# EAGLE library part DF40C-60DS (library sf-keyglove)
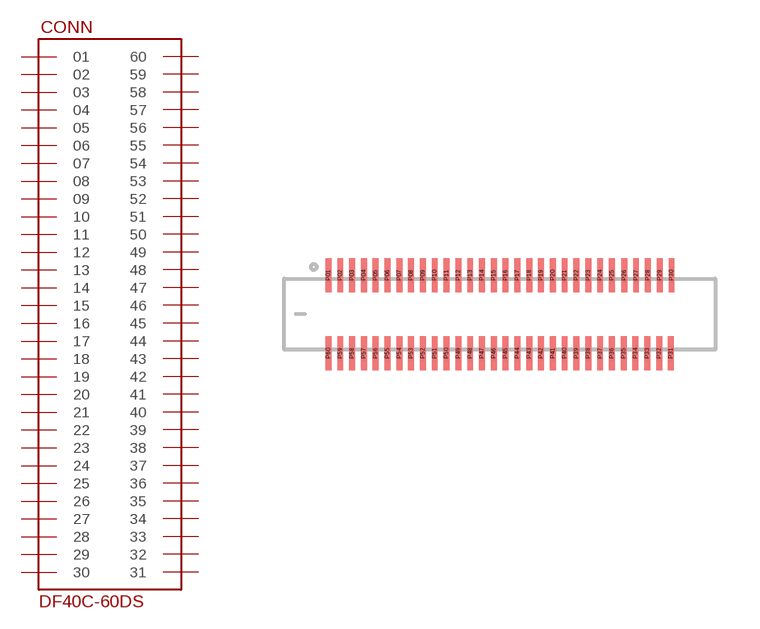
[diagram p8: symbol with the pads of DF40C-60DS; footprint DF40C-60DS]

Designator prefix CONN

## DF40C-60DS  [DF40C-60DS]
P01  01
P02  02
P03  03
P04  04
P05  05
P06  06
P07  07
P08  08
P09  09
P10  10
P11  11
P12  12
P13  13
P14  14
P15  15
P16  16
P17  17
P18  18
P19  19
P20  20
P21  21
P22  22
P23  23
P24  24
P25  25
P26  26
P27  27
P28  28
P29  29
P30  30
P31  31
P32  32
P33  33
P34  34
P35  35
P36  36
P37  37
P38  38
P39  39
P40  40
P41  41
P42  42
P43  43
P44  44
P45  45
P46  46
P47  47
P48  48
P49  49
P50  50
P51  51
P52  52
P53  53
P54  54
P55  55
P56  56
P57  57
P58  58
P59  59
P60  60

## Footprint DF40C-60DS (pad centres in mm)
smd 0.2 x 1.14: P01 -5.8,1.32; P02 -5.4,1.32; P03 -5,1.32; P04 -4.6,1.32; P05 -4.2,1.32; P06 -3.8,1.32; P07 -3.4,1.32; P08 -3,1.32; P09 -2.6,1.32; P10 -2.2,1.32; P11 -1.8,1.32; P12 -1.4,1.32; P13 -1,1.32; P14 -0.6,1.32; P15 -0.2,1.32; P16 0.2,1.32; P17 0.6,1.32; P18 1,1.32; P19 1.4,1.32; P20 1.8,1.32; P21 2.2,1.32; P22 2.6,1.32; P23 3,1.32; P24 3.4,1.32; P25 3.8,1.32; P26 4.22,1.32; P27 4.62,1.32; P28 5.02,1.32; P29 5.42,1.32; P30 5.82,1.32; P31 5.8,-1.32; P32 5.4,-1.32; P33 5,-1.32; P34 4.6,-1.32; P35 4.2,-1.32; P36 3.8,-1.32; P37 3.4,-1.32; P38 3,-1.32; P39 2.6,-1.32; P40 2.2,-1.32; P41 1.8,-1.32; P42 1.4,-1.32; P43 1,-1.32; P44 0.6,-1.32; P45 0.2,-1.32; P46 -0.2,-1.32; P47 -0.6,-1.32; P48 -1,-1.32; P49 -1.4,-1.32; P50 -1.8,-1.32; P51 -2.2,-1.32; P52 -2.6,-1.32; P53 -3,-1.32; P54 -3.4,-1.32; P55 -3.8,-1.32; P56 -4.2,-1.32; P57 -4.6,-1.32; P58 -5,-1.32; P59 -5.4,-1.32; P60 -5.8,-1.32